# Altium integrated library WeAct-CH57xCH58xCoreBoard-Lib.IntLib: 1 symbol
Pins are listed as number, name and electrical type; pins without a type are passive.

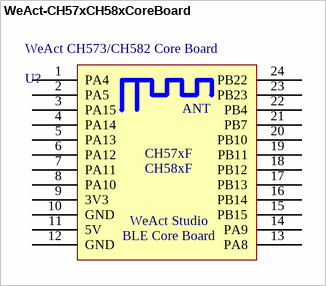
[diagram p0: symbol WeAct-CH57xCH58xCoreBoard]

## WeAct-CH57xCH58xCoreBoard
designator WeAct CH573/CH582 Core Board, comment U?
ComponentLink1Description: WeAct Studio Taobao; ComponentLink1URL: weactstudio.taobao.com; ComponentLink2Description: WeAct Studio Aliexpress; ComponentLink2URL: weactstudio.aliexpress.com; ComponentLink3Description: WeAct Studio Github; ComponentLink3URL: github.com/WeActTC; ComponentLink4Description: WeAct Studio Gitee; ComponentLink4URL: gitee.com/WeAct-TC
footprint WeAct-CH57xCH58xCoreBoard
pins: 1 PA4, 2 PA5, 3 PA15, 4 PA14, 5 PA13, 6 PA12, 7 PA11, 8 PA10, 9 3V3, 10 GND, 11 5V, 12 GND, 13 PA8, 14 PA9, 15 PB15, 16 PB14, 17 PB13, 18 PB12, 19 PB11, 20 PB10, 21 PB7, 22 PB4, 23 PB23, 24 PB22
text: ANT; CH57xF; CH58xF; WeAct Studio; BLE Core Board